# EAGLE library part TPS61090RSAR (library TPS61090RSAR)
None
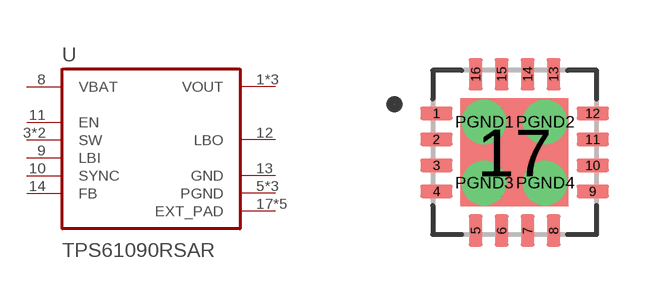
[diagram p0: symbol with the pads of QFN65P400X400X100-17N; footprint QFN65P400X400X100-17N]

Designator prefix U

## TPS61090RSAR (DESCRIPTION: 1.8Vin, 2A Switch, 96% Efficient Boost Converter 16-QFN -40 to 85; DIGI-KEY_PART_NUMBER: 296-15259-1-ND; MF: Texas Instruments; MP: TPS61090RSAR; PACKAGE: VQFN-16 Texas Instruments; PURCHASE-URL: https://pricing.snapeda.com/search/part/TPS61090RSAR/?ref=eda)  [QFN65P400X400X100-17N]
1  VOUT  out
3  SW  in
4  SW  in
5  PGND  pwr
6  PGND  pwr
7  PGND  pwr
8  VBAT  in
9  LBI  in
10  SYNC  in
11  EN  in
12  LBO  out
13  GND  pwr
14  FB  in
15  VOUT  out
16  VOUT  out
17  EXT_PAD  pwr
PGND1  EXT_PAD  pwr
PGND2  EXT_PAD  pwr
PGND3  EXT_PAD  pwr
PGND4  EXT_PAD  pwr

## Footprint QFN65P400X400X100-17N (pad centres in mm)
smd 0.81 x 0.34: 1 -1.955,0.975; 2 -1.955,0.325; 3 -1.955,-0.325; 4 -1.955,-0.975; 9 1.955,-0.975; 10 1.955,-0.325; 11 1.955,0.325; 12 1.955,0.975
smd 0.34 x 0.81: 5 -0.975,-1.955; 6 -0.325,-1.955; 7 0.325,-1.955; 8 0.975,-1.955; 13 0.975,1.955; 14 0.325,1.955; 15 -0.325,1.955; 16 -0.975,1.955
smd 2.7 x 2.7: 17 0,0
drill 0.6: PGND1 -0.762,0.762; PGND2 0.762,0.762; PGND3 -0.762,-0.762; PGND4 0.762,-0.762